# Altium footprint library TST-110-01-G-D.PcbLib: 1 footprints
Each footprint in its own frame and in the unit in brackets; x right, y up, seen from the top. Pads: shape width x height; smd on the part's side, far side on the other; paste and mask are expansions set on the pad; w line width, h text height; cw(c..) or ccw(c..) is an arc to the next point about the centre after c.
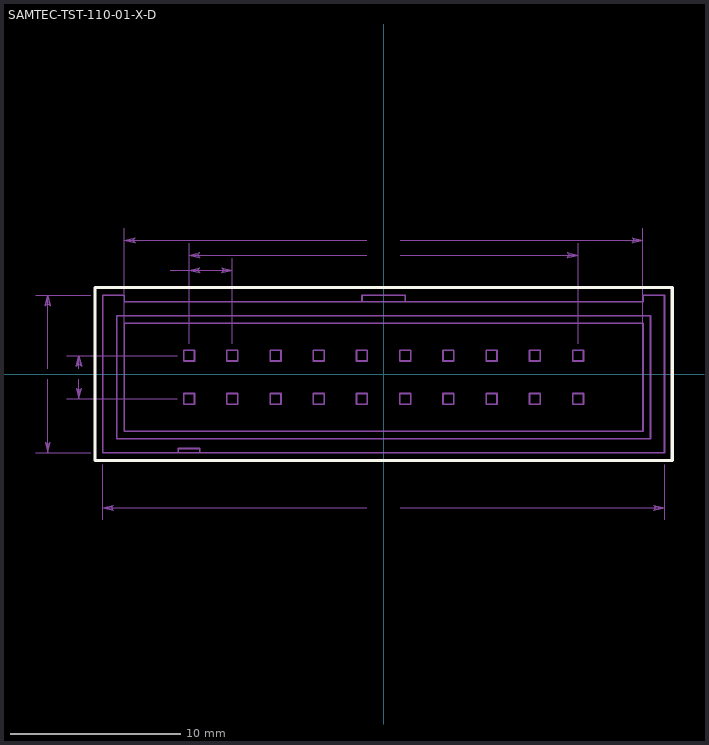
[diagram p0: the footprint, top view; thin cyan lines are the x and y axes]

## SAMTEC-TST-110-01-X-D [mm]
Top Overlay:
  lines w0.2: -16.96,-5.086 16.96,-5.086 16.96,5.086 -16.96,5.086 -16.96,-5.086
Bottom Solder:
  circle w0: c11.43,1.08 r0.861
  circle w0: c11.43,-1.46 r0.861
  circle w0: c8.89,1.08 r0.861
  circle w0: c8.89,-1.46 r0.861
  circle w0: c6.35,1.08 r0.861
  circle w0: c6.35,-1.46 r0.861
  circle w0: c3.81,1.08 r0.861
  circle w0: c3.81,-1.46 r0.861
  circle w0: c1.27,1.08 r0.861
  circle w0: c1.27,-1.46 r0.861
  circle w0: c-1.27,1.08 r0.861
  circle w0: c-1.27,-1.46 r0.861
  circle w0: c-3.81,1.08 r0.861
  circle w0: c-3.81,-1.46 r0.861
  circle w0: c-6.35,1.08 r0.861
  circle w0: c-6.35,-1.46 r0.861
  circle w0: c-8.89,1.08 r0.861
  circle w0: c-8.89,-1.46 r0.861
  circle w0: c-11.43,1.08 r0.861
  circle w0: c-11.43,-1.46 r0.861
Mechanical 13:
  drawing of 298 lines, arcs and shapes, not listed